# EAGLE library part GNDOP_6 (library macros)
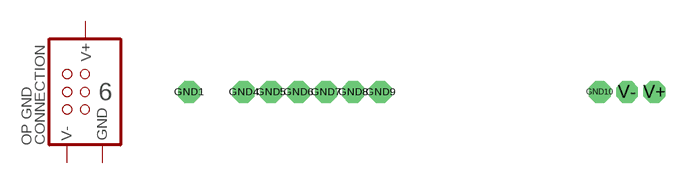
[diagram p9: symbol with the pads of GNDOP_6; footprint GNDOP_6]

Designator prefix $

## GNDOP_6  [GNDOP_6]
GND1  GND  pwr
GND4  GND  pwr
GND5  GND  pwr
GND6  GND  pwr
GND7  GND  pwr
GND8  GND  pwr
GND9  GND  pwr
GND10  GND  pwr
V+  V+  pwr
V-  V-  pwr

## Footprint GNDOP_6 (pad centres in mm)
drill 0.813 pad 2.032 octagon: GND1 0,0; GND4 5.08,0; GND5 7.62,0; GND6 10.16,0; GND7 12.7,0; GND8 15.24,0; GND9 17.78,0; GND10 38.1,0; V+ 43.18,0; V- 40.64,0